# Altium integrated library Altera Cyclone IV E.IntLib: 223 symbols (part 6 of 32)
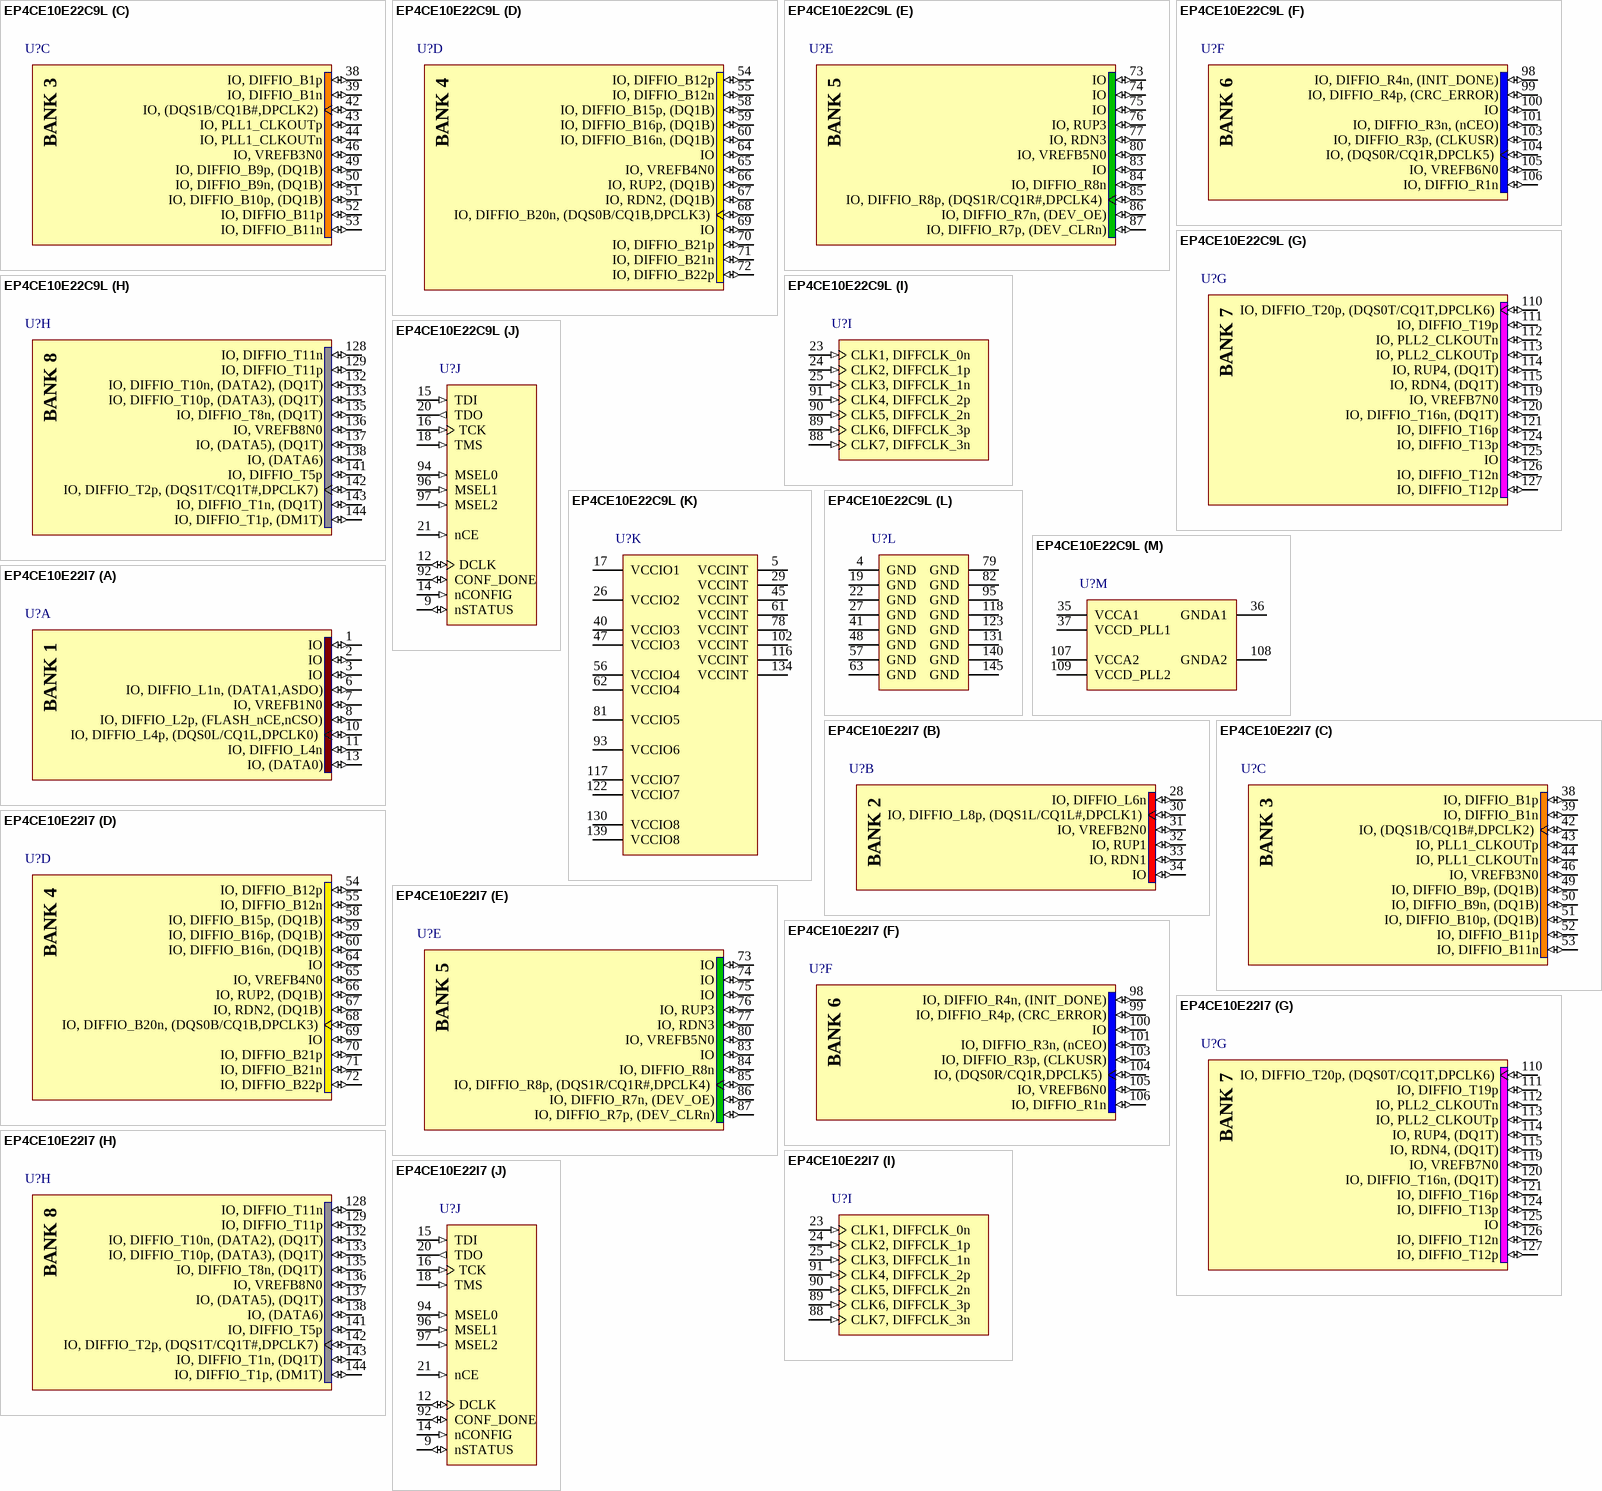
[diagram p502: symbols EP4CE10E22C9L to EP4CE10E22I7]

## EP4CE10E22C9L
designator U?
Cyclone IV Family FPGA, 1V Core, 91 I/O Pins, 2 PLLs, 144-Pin QFP, Speed Grade 9, Commercial Grade; Manufacturer: Altera; DatasheetVersion: ver1.6, Nov-2011; PackageVersion: ver1.0, Jan-2011; PackageReference: EQFP144_A-165_D2-54; PackageDescription: 144-Pin Plastic Enhanced Quad Flat Pack (EQFP) - Wire Bond - A:1.65 - D2:5.4; Code_JEDEC: MS-026-BFB-HD; ComponentLink1Description: Manufacturer URL; ComponentLink1URL: http://www.altera.com/; ComponentLink2Description: Handbook; ComponentLink2URL: http://www.altera.com/literature/hb/cyclone-iv/cyclone4-handbook.pdf; ComponentLink3Description: Pinout; ComponentLink3URL: http://www.altera.com/literature/lit-dp.jsp?category=cyc%204&showspreadsheet=y; ComponentLink4Description: Package Specification; ComponentLink4URL: http://www.altera.com/devicepackaging/04R00402-00.pdf
footprint EQFP144_A-165_D2-54_N (Shrink QFP, 144-Leads, Body 20x20mm, Pitch 0.5mm, Thermal Pad 5.55x5.55mm, IPC Medium Density)
footprint EQFP144_A-165_D2-54_L (Shrink QFP, 144-Leads, Body 20x20mm, Pitch 0.5mm, Thermal Pad 5.55x5.55mm, IPC High Density)
footprint EQFP144_A-165_D2-54_M (Shrink QFP, 144-Leads, Body 20x20mm, Pitch 0.5mm, Thermal Pad 5.55x5.55mm, IPC Low Density)
part A pins: 1 IO (io), 2 IO (io), 3 IO (io), 6 IO, DIFFIO_L1n, (DATA1,ASDO) (io), 7 IO, VREFB1N0 (io), 8 IO, DIFFIO_L2p, (FLASH_nCE,nCSO) (io), 10 IO, DIFFIO_L4p, (DQS0L/CQ1L,DPCLK0) (io), 11 IO, DIFFIO_L4n (io), 13 IO, (DATA0) (io)
part B pins: 28 IO, DIFFIO_L6n (io), 30 IO, DIFFIO_L8p, (DQS1L/CQ1L#,DPCLK1) (io), 31 IO, VREFB2N0 (io), 32 IO, RUP1 (io), 33 IO, RDN1 (io), 34 IO (io)
part C pins: 38 IO, DIFFIO_B1p (io), 39 IO, DIFFIO_B1n (io), 42 IO, (DQS1B/CQ1B#,DPCLK2) (io), 43 IO, PLL1_CLKOUTp (io), 44 IO, PLL1_CLKOUTn (io), 46 IO, VREFB3N0 (io), 49 IO, DIFFIO_B9p, (DQ1B) (io), 50 IO, DIFFIO_B9n, (DQ1B) (io), 51 IO, DIFFIO_B10p, (DQ1B) (io), 52 IO, DIFFIO_B11p (io), 53 IO, DIFFIO_B11n (io)
part D pins: 54 IO, DIFFIO_B12p (io), 55 IO, DIFFIO_B12n (io), 58 IO, DIFFIO_B15p, (DQ1B) (io), 59 IO, DIFFIO_B16p, (DQ1B) (io), 60 IO, DIFFIO_B16n, (DQ1B) (io), 64 IO (io), 65 IO, VREFB4N0 (io), 66 IO, RUP2, (DQ1B) (io), 67 IO, RDN2, (DQ1B) (io), 68 IO, DIFFIO_B20n, (DQS0B/CQ1B,DPCLK3) (io), 69 IO (io), 70 IO, DIFFIO_B21p (io), 71 IO, DIFFIO_B21n (io), 72 IO, DIFFIO_B22p (io)
part E pins: 73 IO (io), 74 IO (io), 75 IO (io), 76 IO, RUP3 (io), 77 IO, RDN3 (io), 80 IO, VREFB5N0 (io), 83 IO (io), 84 IO, DIFFIO_R8n (io), 85 IO, DIFFIO_R8p, (DQS1R/CQ1R#,DPCLK4) (io), 86 IO, DIFFIO_R7n, (DEV_OE) (io), 87 IO, DIFFIO_R7p, (DEV_CLRn) (io)
part F pins: 98 IO, DIFFIO_R4n, (INIT_DONE) (io), 99 IO, DIFFIO_R4p, (CRC_ERROR) (io), 100 IO (io), 101 IO, DIFFIO_R3n, (nCEO) (io), 103 IO, DIFFIO_R3p, (CLKUSR) (io), 104 IO, (DQS0R/CQ1R,DPCLK5) (io), 105 IO, VREFB6N0 (io), 106 IO, DIFFIO_R1n (io)
part G pins: 110 IO, DIFFIO_T20p, (DQS0T/CQ1T,DPCLK6) (io), 111 IO, DIFFIO_T19p (io), 112 IO, PLL2_CLKOUTn (io), 113 IO, PLL2_CLKOUTp (io), 114 IO, RUP4, (DQ1T) (io), 115 IO, RDN4, (DQ1T) (io), 119 IO, VREFB7N0 (io), 120 IO, DIFFIO_T16n, (DQ1T) (io), 121 IO, DIFFIO_T16p (io), 124 IO, DIFFIO_T13p (io), 125 IO (io), 126 IO, DIFFIO_T12n (io), 127 IO, DIFFIO_T12p (io)
part H pins: 128 IO, DIFFIO_T11n (io), 129 IO, DIFFIO_T11p (io), 132 IO, DIFFIO_T10n, (DATA2), (DQ1T) (io), 133 IO, DIFFIO_T10p, (DATA3), (DQ1T) (io), 135 IO, DIFFIO_T8n, (DQ1T) (io), 136 IO, VREFB8N0 (io), 137 IO, (DATA5), (DQ1T) (io), 138 IO, (DATA6) (io), 141 IO, DIFFIO_T5p (io), 142 IO, DIFFIO_T2p, (DQS1T/CQ1T#,DPCLK7) (io), 143 IO, DIFFIO_T1n, (DQ1T) (io), 144 IO, DIFFIO_T1p, (DM1T) (io)
part I pins: 23 CLK1, DIFFCLK_0n (in), 24 CLK2, DIFFCLK_1p (in), 25 CLK3, DIFFCLK_1n (in), 88 CLK7, DIFFCLK_3n (in), 89 CLK6, DIFFCLK_3p (in), 90 CLK5, DIFFCLK_2n (in), 91 CLK4, DIFFCLK_2p (in)
part J pins: 9 nSTATUS (io), 12 DCLK (io), 14 nCONFIG (in), 15 TDI (in), 16 TCK (in), 18 TMS (in), 20 TDO (out), 21 nCE (in), 92 CONF_DONE (io), 94 MSEL0 (in), 96 MSEL1 (in), 97 MSEL2 (in)
part K pins: 5 VCCINT (power), 17 VCCIO1 (power), 26 VCCIO2 (power), 29 VCCINT (power), 40 VCCIO3 (power), 45 VCCINT (power), 47 VCCIO3 (power), 56 VCCIO4 (power), 61 VCCINT (power), 62 VCCIO4 (power), 78 VCCINT (power), 81 VCCIO5 (power), 93 VCCIO6 (power), 102 VCCINT (power), 116 VCCINT (power), 117 VCCIO7 (power), 122 VCCIO7 (power), 130 VCCIO8 (power), 134 VCCINT (power), 139 VCCIO8 (power)
part L pins: 4 GND (power), 19 GND (power), 22 GND (power), 27 GND (power), 41 GND (power), 48 GND (power), 57 GND (power), 63 GND (power), 79 GND (power), 82 GND (power), 95 GND (power), 118 GND (power), 123 GND (power), 131 GND (power), 140 GND (power), 145 GND (power)
part M pins: 35 VCCA1 (power), 36 GNDA1 (power), 37 VCCD_PLL1 (power), 107 VCCA2 (power), 108 GNDA2 (power), 109 VCCD_PLL2 (power)
part A text: BANK 1
part B text: BANK 2
part C text: BANK 3
part D text: BANK 4
part E text: BANK 5
part F text: BANK 6
part G text: BANK 7
part H text: BANK 8

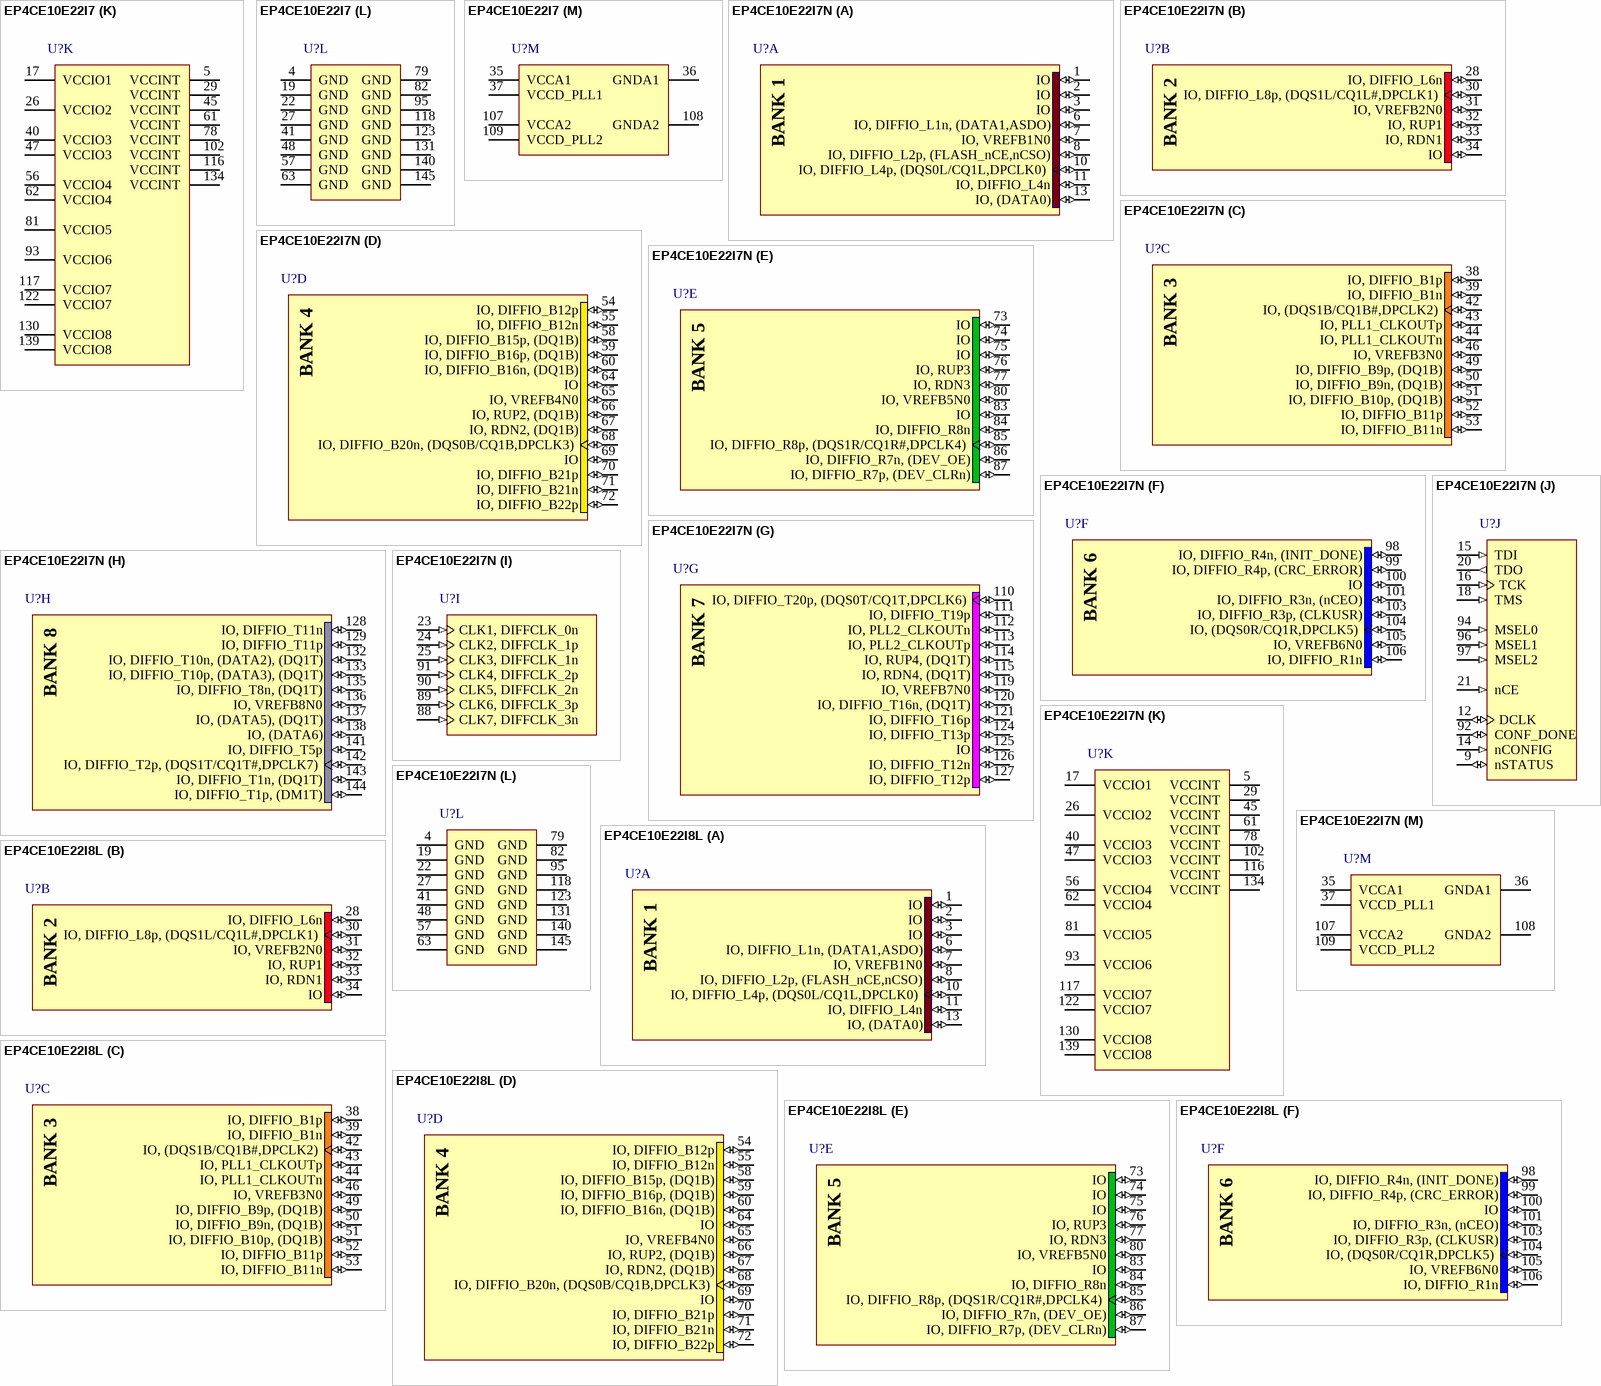
[diagram p31: symbols EP4CE10E22I7 to EP4CE10E22I8L]

## EP4CE10E22I7
designator U?
Cyclone IV Family FPGA, 1.2V Core, 91 I/O Pins, 2 PLLs, 144-Pin QFP, Speed Grade 7, Industrial Grade; Manufacturer: Altera; DatasheetVersion: ver1.6, Nov-2011; PackageVersion: ver1.0, Jan-2011; PackageReference: EQFP144_A-165_D2-54; PackageDescription: 144-Pin Plastic Enhanced Quad Flat Pack (EQFP) - Wire Bond - A:1.65 - D2:5.4; Code_JEDEC: MS-026-BFB-HD; ComponentLink1Description: Manufacturer URL; ComponentLink1URL: http://www.altera.com/; ComponentLink2Description: Handbook; ComponentLink2URL: http://www.altera.com/literature/hb/cyclone-iv/cyclone4-handbook.pdf; ComponentLink3Description: Pinout; ComponentLink3URL: http://www.altera.com/literature/lit-dp.jsp?category=cyc%204&showspreadsheet=y; ComponentLink4Description: Package Specification; ComponentLink4URL: http://www.altera.com/devicepackaging/04R00402-00.pdf
footprint EQFP144_A-165_D2-54_N (Shrink QFP, 144-Leads, Body 20x20mm, Pitch 0.5mm, Thermal Pad 5.55x5.55mm, IPC Medium Density)
footprint EQFP144_A-165_D2-54_L (Shrink QFP, 144-Leads, Body 20x20mm, Pitch 0.5mm, Thermal Pad 5.55x5.55mm, IPC High Density)
footprint EQFP144_A-165_D2-54_M (Shrink QFP, 144-Leads, Body 20x20mm, Pitch 0.5mm, Thermal Pad 5.55x5.55mm, IPC Low Density)
part A pins: 1 IO (io), 2 IO (io), 3 IO (io), 6 IO, DIFFIO_L1n, (DATA1,ASDO) (io), 7 IO, VREFB1N0 (io), 8 IO, DIFFIO_L2p, (FLASH_nCE,nCSO) (io), 10 IO, DIFFIO_L4p, (DQS0L/CQ1L,DPCLK0) (io), 11 IO, DIFFIO_L4n (io), 13 IO, (DATA0) (io)
part B pins: 28 IO, DIFFIO_L6n (io), 30 IO, DIFFIO_L8p, (DQS1L/CQ1L#,DPCLK1) (io), 31 IO, VREFB2N0 (io), 32 IO, RUP1 (io), 33 IO, RDN1 (io), 34 IO (io)
part C pins: 38 IO, DIFFIO_B1p (io), 39 IO, DIFFIO_B1n (io), 42 IO, (DQS1B/CQ1B#,DPCLK2) (io), 43 IO, PLL1_CLKOUTp (io), 44 IO, PLL1_CLKOUTn (io), 46 IO, VREFB3N0 (io), 49 IO, DIFFIO_B9p, (DQ1B) (io), 50 IO, DIFFIO_B9n, (DQ1B) (io), 51 IO, DIFFIO_B10p, (DQ1B) (io), 52 IO, DIFFIO_B11p (io), 53 IO, DIFFIO_B11n (io)
part D pins: 54 IO, DIFFIO_B12p (io), 55 IO, DIFFIO_B12n (io), 58 IO, DIFFIO_B15p, (DQ1B) (io), 59 IO, DIFFIO_B16p, (DQ1B) (io), 60 IO, DIFFIO_B16n, (DQ1B) (io), 64 IO (io), 65 IO, VREFB4N0 (io), 66 IO, RUP2, (DQ1B) (io), 67 IO, RDN2, (DQ1B) (io), 68 IO, DIFFIO_B20n, (DQS0B/CQ1B,DPCLK3) (io), 69 IO (io), 70 IO, DIFFIO_B21p (io), 71 IO, DIFFIO_B21n (io), 72 IO, DIFFIO_B22p (io)
part E pins: 73 IO (io), 74 IO (io), 75 IO (io), 76 IO, RUP3 (io), 77 IO, RDN3 (io), 80 IO, VREFB5N0 (io), 83 IO (io), 84 IO, DIFFIO_R8n (io), 85 IO, DIFFIO_R8p, (DQS1R/CQ1R#,DPCLK4) (io), 86 IO, DIFFIO_R7n, (DEV_OE) (io), 87 IO, DIFFIO_R7p, (DEV_CLRn) (io)
part F pins: 98 IO, DIFFIO_R4n, (INIT_DONE) (io), 99 IO, DIFFIO_R4p, (CRC_ERROR) (io), 100 IO (io), 101 IO, DIFFIO_R3n, (nCEO) (io), 103 IO, DIFFIO_R3p, (CLKUSR) (io), 104 IO, (DQS0R/CQ1R,DPCLK5) (io), 105 IO, VREFB6N0 (io), 106 IO, DIFFIO_R1n (io)
part G pins: 110 IO, DIFFIO_T20p, (DQS0T/CQ1T,DPCLK6) (io), 111 IO, DIFFIO_T19p (io), 112 IO, PLL2_CLKOUTn (io), 113 IO, PLL2_CLKOUTp (io), 114 IO, RUP4, (DQ1T) (io), 115 IO, RDN4, (DQ1T) (io), 119 IO, VREFB7N0 (io), 120 IO, DIFFIO_T16n, (DQ1T) (io), 121 IO, DIFFIO_T16p (io), 124 IO, DIFFIO_T13p (io), 125 IO (io), 126 IO, DIFFIO_T12n (io), 127 IO, DIFFIO_T12p (io)
part H pins: 128 IO, DIFFIO_T11n (io), 129 IO, DIFFIO_T11p (io), 132 IO, DIFFIO_T10n, (DATA2), (DQ1T) (io), 133 IO, DIFFIO_T10p, (DATA3), (DQ1T) (io), 135 IO, DIFFIO_T8n, (DQ1T) (io), 136 IO, VREFB8N0 (io), 137 IO, (DATA5), (DQ1T) (io), 138 IO, (DATA6) (io), 141 IO, DIFFIO_T5p (io), 142 IO, DIFFIO_T2p, (DQS1T/CQ1T#,DPCLK7) (io), 143 IO, DIFFIO_T1n, (DQ1T) (io), 144 IO, DIFFIO_T1p, (DM1T) (io)
part I pins: 23 CLK1, DIFFCLK_0n (in), 24 CLK2, DIFFCLK_1p (in), 25 CLK3, DIFFCLK_1n (in), 88 CLK7, DIFFCLK_3n (in), 89 CLK6, DIFFCLK_3p (in), 90 CLK5, DIFFCLK_2n (in), 91 CLK4, DIFFCLK_2p (in)
part J pins: 9 nSTATUS (io), 12 DCLK (io), 14 nCONFIG (in), 15 TDI (in), 16 TCK (in), 18 TMS (in), 20 TDO (out), 21 nCE (in), 92 CONF_DONE (io), 94 MSEL0 (in), 96 MSEL1 (in), 97 MSEL2 (in)
part K pins: 5 VCCINT (power), 17 VCCIO1 (power), 26 VCCIO2 (power), 29 VCCINT (power), 40 VCCIO3 (power), 45 VCCINT (power), 47 VCCIO3 (power), 56 VCCIO4 (power), 61 VCCINT (power), 62 VCCIO4 (power), 78 VCCINT (power), 81 VCCIO5 (power), 93 VCCIO6 (power), 102 VCCINT (power), 116 VCCINT (power), 117 VCCIO7 (power), 122 VCCIO7 (power), 130 VCCIO8 (power), 134 VCCINT (power), 139 VCCIO8 (power)
part L pins: 4 GND (power), 19 GND (power), 22 GND (power), 27 GND (power), 41 GND (power), 48 GND (power), 57 GND (power), 63 GND (power), 79 GND (power), 82 GND (power), 95 GND (power), 118 GND (power), 123 GND (power), 131 GND (power), 140 GND (power), 145 GND (power)
part M pins: 35 VCCA1 (power), 36 GNDA1 (power), 37 VCCD_PLL1 (power), 107 VCCA2 (power), 108 GNDA2 (power), 109 VCCD_PLL2 (power)
part A text: BANK 1
part B text: BANK 2
part C text: BANK 3
part D text: BANK 4
part E text: BANK 5
part F text: BANK 6
part G text: BANK 7
part H text: BANK 8